# Altium footprint library myPcbLib.PcbLib: 14 footprints
Each footprint in its own frame and in the unit in brackets; x right, y up, seen from the top. Pads: shape width x height; smd on the part's side, far side on the other; paste and mask are expansions set on the pad; w line width, h text height; cw(c..) or ccw(c..) is an arc to the next point about the centre after c.
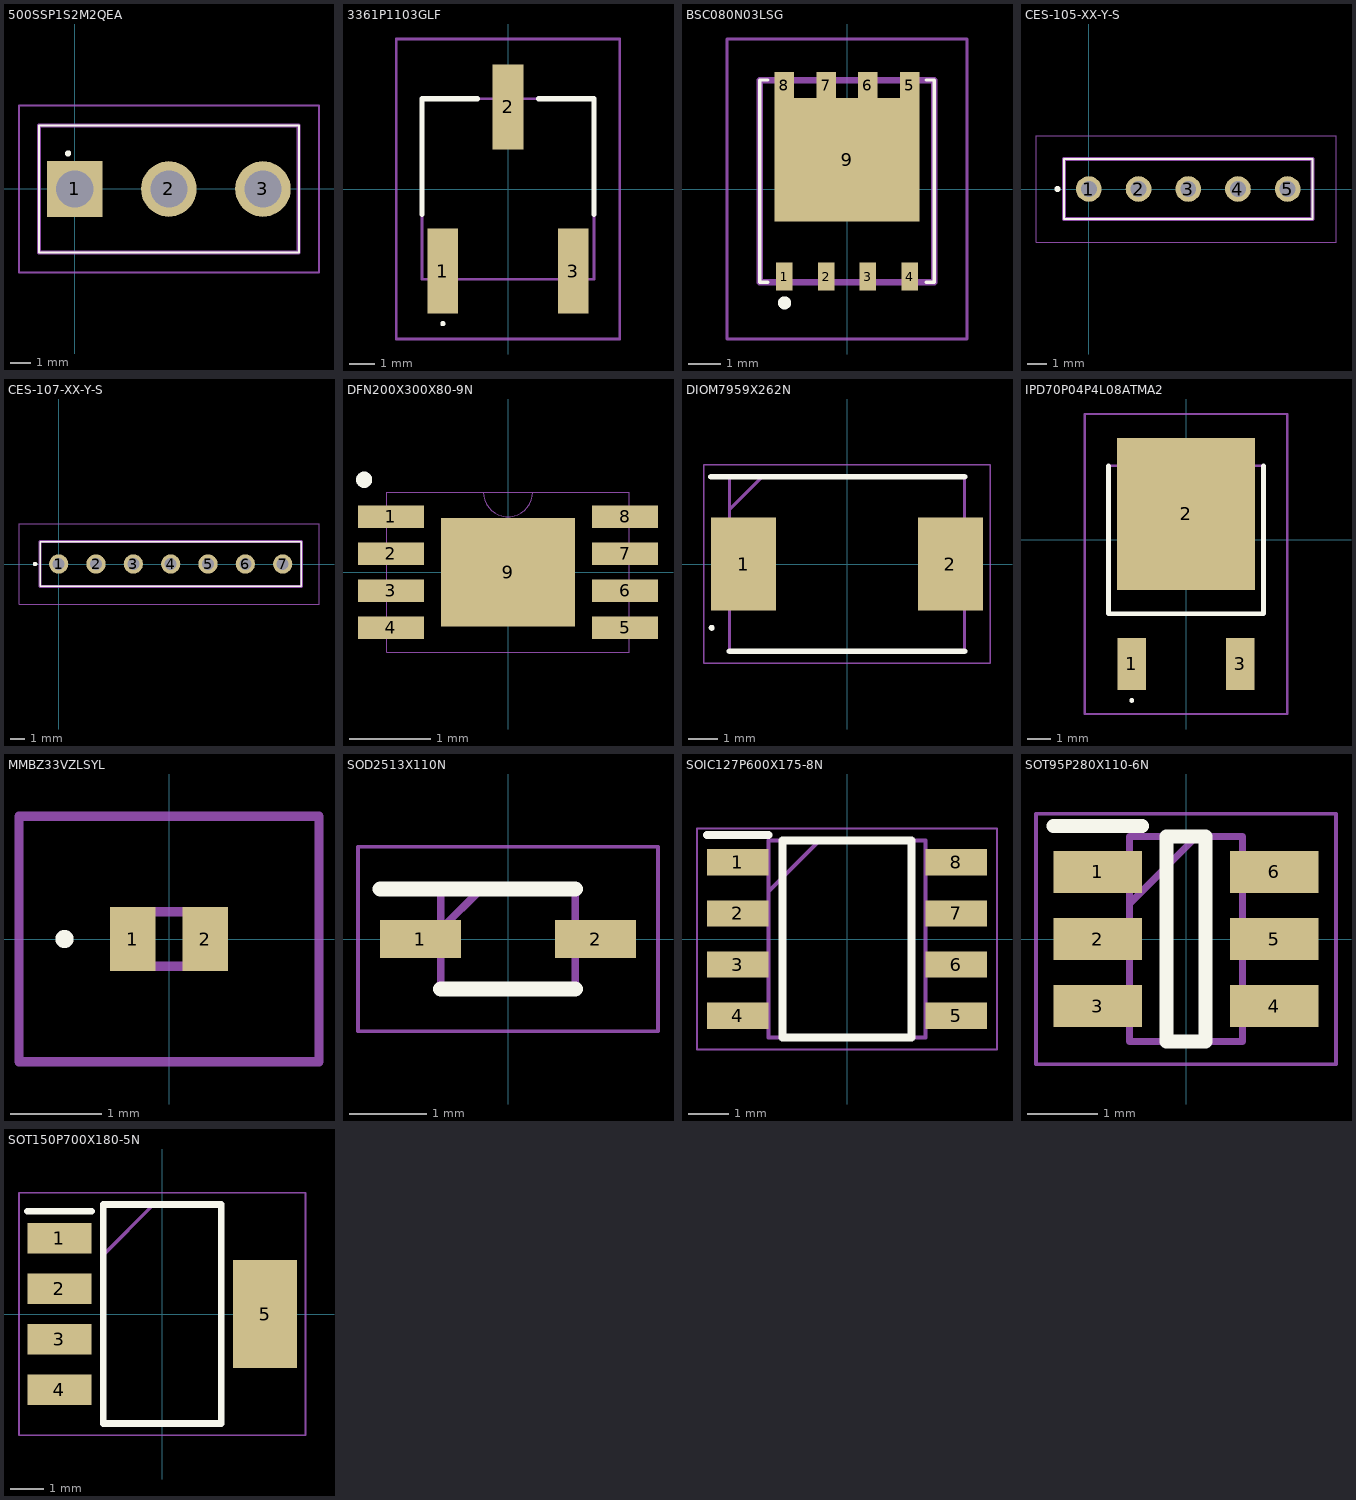
[diagram p0: the footprints below, top view; thin cyan lines are the x and y axes]

## 500SSP1S2M2QEA [mm]
pads (3):
  rect 2.775x2.775 hole 1.85: 1(0,0)
  round 2.775 hole 1.85: 2(4.7,0) 3(9.4,0)
Top Overlay:
  circle w0.2: c-0.33,1.778 r0.05
  lines w0.1: -1.785,-3.175 -1.785,3.175 11.2,3.175 11.2,-3.175 -1.785,-3.175
Mechanical 13:
  lines w0.2: -1.785,-3.175 -1.785,3.175 11.185,3.175 11.185,-3.175 -1.785,-3.175
Mechanical 15:
  lines w0.1: -2.785,-4.175 -2.785,4.175 12.2,4.175 12.2,-4.175 -2.785,-4.175
3D body "500SSP1S2M2QEA.stp": height 13.59, standoff -6.6, extent -1.65,-3.3 11.05,3.3

## 3361P1103GLF [mm]
pads (3):
  rect 1.19x3.3 smd: 1(-2.54,-3.2) 2(0,3.2) 3(2.54,-3.2)
Top Overlay:
  lines w0.1: -2.54,-5.3 cw(c-2.54,-5.25) -2.54,-5.2 cw(c-2.54,-5.25) -2.54,-5.3
  lines w0.2: -3.355,-1 -3.355,3.52 -1.2,3.52 ; 1.2,3.52 3.355,3.52 3.355,-1
Mechanical 13:
  lines w0.1: -3.355,-3.52 3.355,-3.52 3.355,3.52 -3.355,3.52 -3.355,-3.52
Mechanical 15:
  lines w0.1: -4.355,-5.85 4.355,-5.85 4.355,5.85 -4.355,5.85 -4.355,-5.85
3D body "3361P-1-103GLF.stp": height 5.23, standoff 0, extent -3.354,-4.266 3.351,4.268

## BSC080N03LSG [mm]
pads (9):
  rect 0.5x0.85 smd: 1(-1.905,-2.662) 2(-0.635,-2.662) 3(0.635,-2.662) 4(1.905,-2.662)
  rect 0.6x0.8 smd: 5(1.905,3.163) 6(0.635,3.163) 7(-0.635,3.163) 8(-1.905,3.163)
  rect 4.41x3.75 smd: 9(0,0.888)
Top Overlay:
  lines w0.1: -2.4,-2.838 -2.65,-2.838 -2.65,3.313 -2.4,3.313 ; 2.4,-2.838 2.65,-2.838 2.65,3.313 2.4,3.313
  lines w0.2: -2,-3.463 cw(c-1.9,-3.463) -1.8,-3.463 ; -2,-3.463 ccw(c-1.9,-3.463) -1.799,-3.463
Mechanical 13:
  lines w0.2: -2.65,-2.838 2.65,-2.838 2.65,3.313 -2.65,3.313 -2.65,-2.838
Mechanical 15:
  lines w0.1: -3.65,-4.563 3.65,-4.563 3.65,4.563 -3.65,4.563 -3.65,-4.563
3D body "BSC067N06LS3_G.stp": height 1, standoff 0, extent -2.697,-3.078 2.693,3.072

## CES-105-XX-Y-S [mm]
pads (5):
  round 1.31 hole 0.81: 1(0,0) 2(2.54,0) 3(5.08,0) 4(7.62,0) 5(10.16,0)
Top Overlay:
  circle w0.2: c-1.6,0 r0.05
  lines w0.1: -1.27,-1.525 -1.27,1.525 11.43,1.525 11.43,-1.525 -1.27,-1.525
Mechanical 13:
  lines w0.2: -1.27,-1.525 -1.27,1.525 11.43,1.525 11.43,-1.525 -1.27,-1.525
Mechanical 15:
  lines w0.05: -2.7,-2.725 -2.7,2.725 12.63,2.725 12.63,-2.725 -2.7,-2.725
3D body "CES-105-01-L-S.stp": height 5.54, standoff -2.79, extent -1.26,-1.524 11.44,1.524

## CES-107-XX-Y-S [mm]
pads (7):
  round 1.31 hole 0.81: 1(0,0) 2(2.54,0) 3(5.08,0) 4(7.62,0) 5(10.16,0) 6(12.7,0) 7(15.24,0)
Top Overlay:
  circle w0.2: c-1.6,0 r0.05
  lines w0.1: -1.27,-1.525 -1.27,1.525 16.51,1.525 16.51,-1.525 -1.27,-1.525
Mechanical 13:
  lines w0.2: -1.27,-1.525 -1.27,1.525 16.51,1.525 16.51,-1.525 -1.27,-1.525
Mechanical 15:
  lines w0.05: -2.7,-2.725 -2.7,2.725 17.71,2.725 17.71,-2.725 -2.7,-2.725
3D body "CES-107-01-L-S.stp": height 4.58, standoff -3.75, extent -1.27,-1.524 16.51,1.524

## DFN200X300X80-9N [mil]
pads (9):
  rect 32x11 smd: 1(-57,27) 2(-57,9) 3(-57,-9) 4(-57,-27) 5(57,-27) 6(57,-9) 7(57,9) 8(57,27)
  rect 65x53 smd: 9(0,0)
Top Overlay:
  lines w3.94: -70,43.03 cw(c-70,45) -70,46.97 cw(c-70,45) -70,43.03
Mechanical 13:
  lines w0: -12,39 ccw(c0,39) 12,39 ; -12,39 -59,39 -59,-39 59,-39 59,39 12,39 ; -12,39 12,39
3D body "DFN-8_DCB_LIT.step": height 32.09, standoff 0, extent -60.98,-41.5 60.98,41.5

## DIOM7959X262N [mm]
pads (2):
  rect 2.2x3.15 smd: 1(-3.5,0) 2(3.5,0)
Top Overlay:
  lines w0.1: -4.629,-2.159 ccw(c-4.579,-2.159) -4.529,-2.159 ccw(c-4.579,-2.159) -4.629,-2.159
  lines w0.2: -4.6,2.952 3.97,2.952 ; -3.97,-2.952 3.97,-2.952
Mechanical 13:
  lines w0.1: -3.97,1.852 -2.87,2.952 ; -3.97,-2.952 3.97,-2.952 3.97,2.952 -3.97,2.952 -3.97,-2.952
Mechanical 15:
  lines w0.05: -4.85,-3.36 4.85,-3.36 4.85,3.36 -4.85,3.36 -4.85,-3.36
3D body "5.0SMDJ40AS.stp": height 2.62, standoff 0, extent -3.97,-2.953 3.97,2.953

## IPD70P04P4L08ATMA2 [mm]
pads (3):
  rect 1.2x2.2 smd: 1(-2.28,-5.22) 3(2.28,-5.22)
  rect 5.8x6.4 smd: 2(0,1.08)
Top Overlay:
  lines w0.1: -2.28,-6.8 ccw(c-2.28,-6.75) -2.28,-6.7 ccw(c-2.28,-6.75) -2.28,-6.8
  lines w0.2: -3.25,3.11 -3.25,-3.11 3.25,-3.11 3.25,3.11
Mechanical 13:
  lines w0.1: -3.25,-3.11 -3.25,3.11 3.25,3.11 3.25,-3.11 -3.25,-3.11
Mechanical 15:
  lines w0.1: -4.25,-7.32 -4.25,5.28 4.25,5.28 4.25,-7.32 -4.25,-7.32
3D body "IPD70P04P4L08ATMA2.stp": height 2.45, standoff 0, extent -3.25,-6.025 3.25,3.98

## MMBZ33VZLSYL [mm]
pads (2):
  rect 0.5x0.7 smd: 1(-0.4,0) 2(0.4,0)
Top Overlay:
  lines w0.1: -1.2,0 cw(c-1.15,0) -1.1,0 cw(c-1.15,0) -1.2,0
Mechanical 13:
  lines w0.1: -0.5,-0.3 0.5,-0.3 0.5,0.3 -0.5,0.3 -0.5,-0.3
Mechanical 15:
  lines w0.1: -1.65,-1.35 1.65,-1.35 1.65,1.35 -1.65,1.35 -1.65,-1.35
3D body "MMBZ33VZ-LSYL.stp": height 0.47, standoff 0, extent -0.545,-0.303 0.535,0.297

## PCBComponent_1 [mm]

## SOD2513X110N [mm]
pads (2):
  rect 1.05x0.5 smd: 1(-1.138,0) 2(1.138,0)
Top Overlay:
  lines w0.2: -1.662,0.65 0.875,0.65 ; -0.875,-0.65 0.875,-0.65
Mechanical 13:
  lines w0.1: -0.875,0.125 -0.35,0.65 ; -0.875,-0.65 -0.875,0.65 0.875,0.65 0.875,-0.65 -0.875,-0.65
Mechanical 15:
  lines w0.05: -1.95,-1.2 -1.95,1.2 1.95,1.2 1.95,-1.2 -1.95,-1.2
3D body "BAS3010A03WE6327HTSA1.stp": height 1.1, standoff 0, extent -1.25,-0.65 1.25,0.65

## SOIC127P600X175-8N [mm]
pads (8):
  rect 1.525x0.65 smd: 1(-2.712,1.905) 2(-2.712,0.635) 3(-2.712,-0.635) 4(-2.712,-1.905) 5(2.712,-1.905) 6(2.712,-0.635) 7(2.712,0.635) 8(2.712,1.905)
Top Overlay:
  lines w0.2: -3.475,2.58 -1.95,2.58 ; -1.6,-2.45 1.6,-2.45 1.6,2.45 -1.6,2.45 -1.6,-2.45
Mechanical 13:
  lines w0.1: -1.95,1.18 -0.68,2.45 ; -1.95,-2.45 1.95,-2.45 1.95,2.45 -1.95,2.45 -1.95,-2.45
Mechanical 15:
  lines w0.05: -3.725,-2.75 3.725,-2.75 3.725,2.75 -3.725,2.75 -3.725,-2.75
3D body "TSC2011HYDT.stp": height 1.75, standoff 0, extent -3,-2.45 3,2.45

## SOT95P280X110-6N [mm]
pads (6):
  rect 1.25x0.6 smd: 1(-1.25,0.95) 2(-1.25,0) 3(-1.25,-0.95) 4(1.25,-0.95) 5(1.25,0) 6(1.25,0.95)
Top Overlay:
  lines w0.2: -1.875,1.6 -0.625,1.6 ; -0.275,-1.45 -0.275,1.45 0.275,1.45 0.275,-1.45 -0.275,-1.45
Mechanical 13:
  lines w0.1: -0.8,0.5 0.15,1.45 ; -0.8,-1.45 -0.8,1.45 0.8,1.45 0.8,-1.45 -0.8,-1.45
Mechanical 15:
  lines w0.05: -2.125,-1.775 -2.125,1.775 2.125,1.775 2.125,-1.775 -2.125,-1.775
3D body "LMR51420XFDDCR.stp": height 0.97, standoff 0, extent -1.4,-1.45 1.4,1.45

## SOT150P700X180-5N [mm]
pads (5):
  rect 1.9x0.9 smd: 1(-3.05,2.25) 2(-3.05,0.75) 3(-3.05,-0.75) 4(-3.05,-2.25)
  rect 1.9x3.2 smd: 5(3.05,0)
Top Overlay:
  lines w0.2: -4,3.05 -2.1,3.05 ; -1.75,-3.25 -1.75,3.25 1.75,3.25 1.75,-3.25 -1.75,-3.25
Mechanical 13:
  lines w0.1: -1.755,1.75 -0.255,3.25 ; -1.755,-3.25 -1.755,3.25 1.755,3.25 1.755,-3.25 -1.755,-3.25
Mechanical 15:
  lines w0.05: -4.25,-3.6 -4.25,3.6 4.25,3.6 4.25,-3.6 -4.25,-3.6
3D body "LP3875EMP-5.0_NOPB.stp": height 1.68, standoff 0, extent -3.482,-3.25 3.482,3.25